# Altium footprint library RADIAL, CAN - THRU 10mm.PcbLib: 1 footprints
Each footprint in its own frame and in the unit in brackets; x right, y up, seen from the top. Pads: shape width x height; smd on the part's side, far side on the other; paste and mask are expansions set on the pad; w line width, h text height; cw(c..) or ccw(c..) is an arc to the next point about the centre after c.
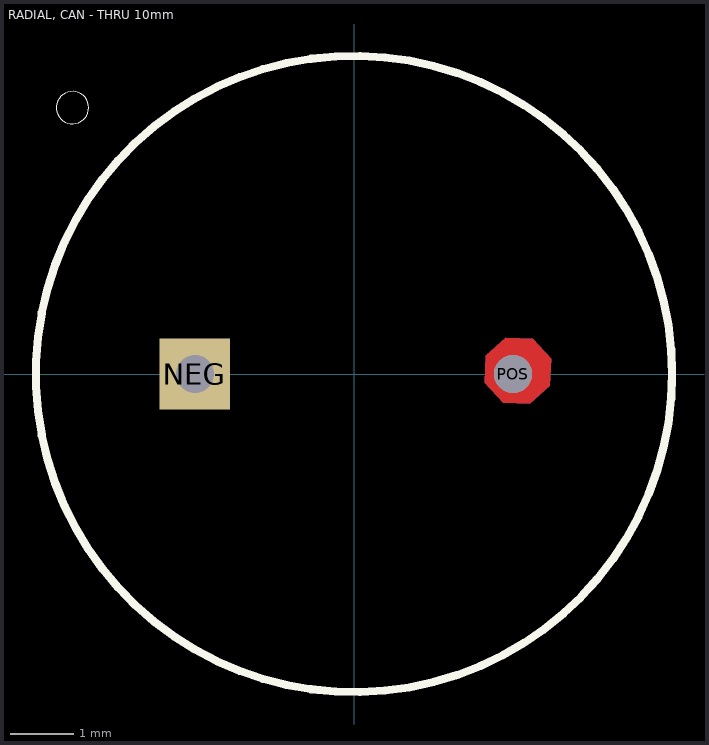
[diagram p0: the footprint, top view; thin cyan lines are the x and y axes]

## RADIAL, CAN - THRU 10mm [mm]
pads (2):
  rect 1.108x1.108 hole 0.6: NEG(-2.5,0)
  round 0.6 hole 0.6: POS(2.5,0)
Top Layer:
  region: 3.097,0.24 2.81,0.553 2.387,0.571 2.074,0.285 2.056,-0.139 2.342,-0.451 2.766,-0.47 3.078,-0.183
Bottom Layer:
  region: 3.097,0.24 2.81,0.553 2.387,0.571 2.074,0.285 2.056,-0.139 2.342,-0.451 2.766,-0.47 3.078,-0.183
Top Overlay:
  circle w0: c-4.424,4.186 r0.254
  circle w0.127: c0,0 r5
Multi-Layer:
  region: 3.097,0.24 2.81,0.553 2.387,0.571 2.074,0.285 2.056,-0.139 2.342,-0.451 2.766,-0.47 3.078,-0.183